# Altium schematic symbol library GOSTTransistor.SchLib: 9 symbols
Pins are listed as number, name and electrical type; pins without a type are passive.

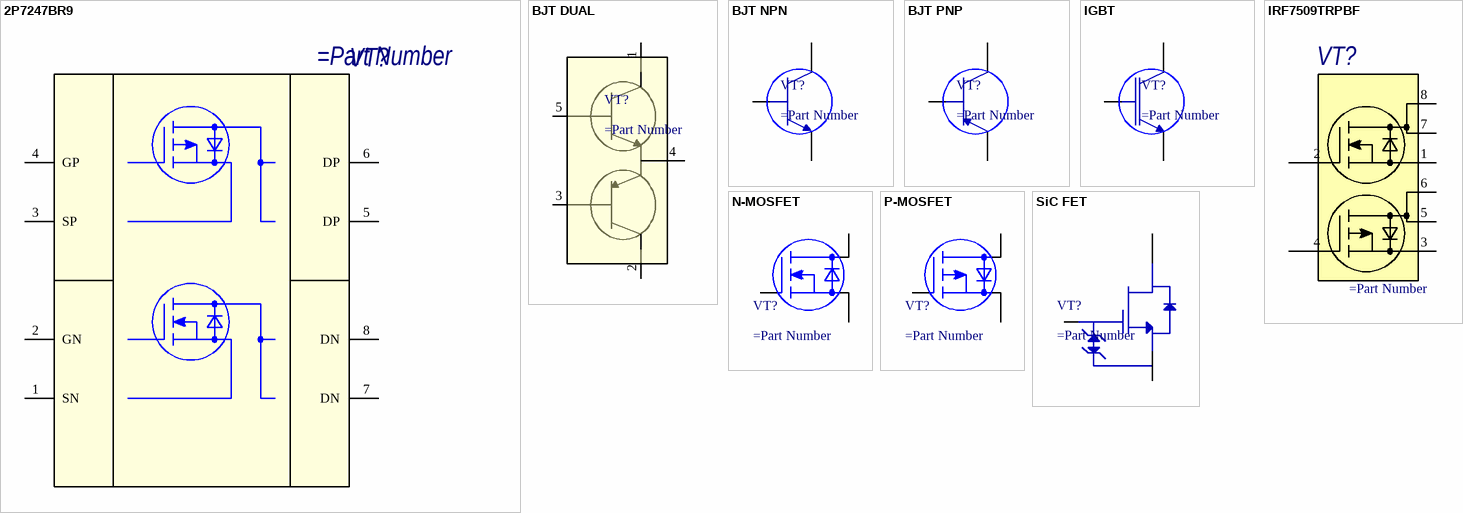
[diagram p0: symbols 2P7247BR9 to SiC FET]

## 2P7247BR9
designator VT?
Транзисторная сборка состоящая из комплементарной пары переключательных полевых транзисторов с n- и p-каналами.
pins: 1 SN, 2 GN, 3 SP, 4 GP, 5 DP, 6 DP, 7 DN, 8 DN

## BJT DUAL
designator VT?
pins: 1 C, 2 E, 3 B, 4 E, 5 B

## BJT NPN
designator VT?
pins: 1 B, 2 C, 3 E

## BJT PNP
designator VT?
pins: 1 B, 2 C, 3 E

## IGBT
designator VT?
pins: 1 G, 2 С, 3 E

## IRF7509TRPBF
designator VT?
Комплементарная сборка МОП
pins: 1 S1, 2 G1, 3 S2, 4 G2, 5 D2, 6 D2, 7 D1, 8 D1

## N-MOSFET
designator VT?
N-MOSFET
pins: 1 G, 2 D, 3 S

## P-MOSFET
designator VT?
N-MOSFET
pins: 1 G, 2 D, 3 S

## SiC FET
designator VT?
SiC FET
pins: 1 G, 2 D, 3 S